# EAGLE library part RASPBERRY_PI_PICO (library WarthogRobotics-Modules)
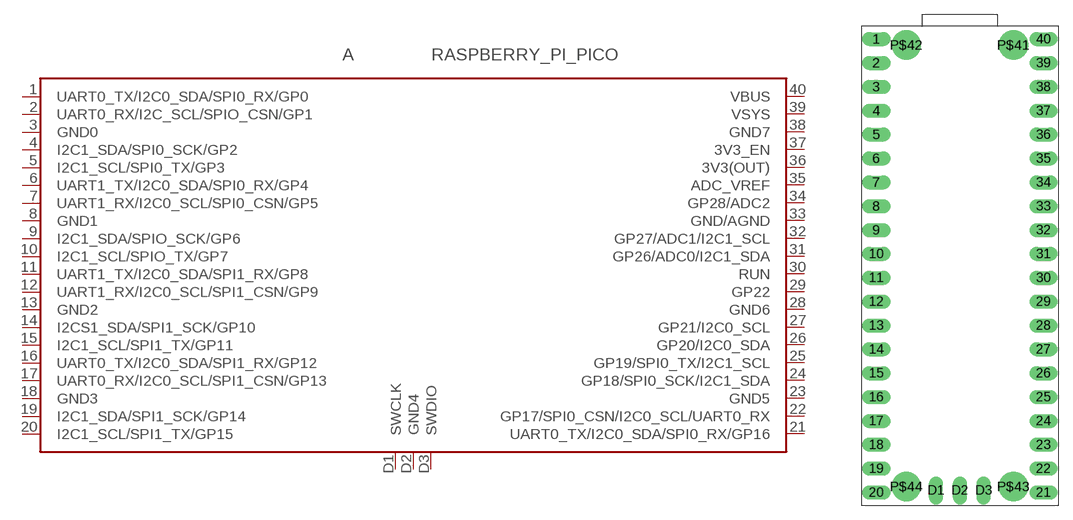
[diagram p0: symbol with the pads of RASPBERRY_PI_PICO; footprint RASPBERRY_PI_PICO]

Designator prefix A

## RASPBERRY_PI_PICO  [RASPBERRY_PI_PICO]
1  UART0_TX/I2C0_SDA/SPI0_RX/GP0
2  UART0_RX/I2C_SCL/SPIO_CSN/GP1
3  GND0
4  I2C1_SDA/SPI0_SCK/GP2
5  I2C1_SCL/SPI0_TX/GP3
6  UART1_TX/I2C0_SDA/SPI0_RX/GP4
7  UART1_RX/I2C0_SCL/SPI0_CSN/GP5
8  GND1
9  I2C1_SDA/SPIO_SCK/GP6
10  I2C1_SCL/SPIO_TX/GP7
11  UART1_TX/I2C0_SDA/SPI1_RX/GP8
12  UART1_RX/I2C0_SCL/SPI1_CSN/GP9
13  GND2
14  I2CS1_SDA/SPI1_SCK/GP10
15  I2C1_SCL/SPI1_TX/GP11
16  UART0_TX/I2C0_SDA/SPI1_RX/GP12
17  UART0_RX/I2C0_SCL/SPI1_CSN/GP13
18  GND3
19  I2C1_SDA/SPI1_SCK/GP14
20  I2C1_SCL/SPI1_TX/GP15
21  UART0_TX/I2C0_SDA/SPI0_RX/GP16
22  GP17/SPI0_CSN/I2C0_SCL/UART0_RX
23  GND5
24  GP18/SPI0_SCK/I2C1_SDA
25  GP19/SPI0_TX/I2C1_SCL
26  GP20/I2C0_SDA
27  GP21/I2C0_SCL
28  GND6
29  GP22
30  RUN
31  GP26/ADC0/I2C1_SDA
32  GP27/ADC1/I2C1_SCL
33  GND/AGND
34  GP28/ADC2
35  ADC_VREF
36  3V3(OUT)
37  3V3_EN
38  GND7
39  VSYS
40  VBUS
D1  SWCLK
D2  GND4
D3  SWDIO

## Footprint RASPBERRY_PI_PICO (pad centres in mm)
drill 1 long: 1 -8.89,25.4; 2 -8.89,22.86; 3 -8.89,20.32; 4 -8.89,17.78; 5 -8.89,15.24; 6 -8.89,12.7; 7 -8.89,10.16; 8 -8.89,7.62; 9 -8.89,5.08; 10 -8.89,2.54; 11 -8.89,0; 12 -8.89,-2.54; 13 -8.89,-5.08; 14 -8.89,-7.62; 15 -8.89,-10.16; 16 -8.89,-12.7; 17 -8.89,-15.24; 18 -8.89,-17.78; 19 -8.89,-20.32; 20 -8.89,-22.86; 21 8.89,-22.86; 22 8.89,-20.32; 23 8.89,-17.78; 24 8.89,-15.24; 25 8.89,-12.7; 26 8.89,-10.16; 27 8.89,-7.62; 28 8.89,-5.08; 29 8.89,-2.54; 30 8.89,0; 31 8.89,2.54; 32 8.89,5.08; 33 8.89,7.62; 34 8.89,10.16; 35 8.89,12.7; 36 8.89,15.24; 37 8.89,17.78; 38 8.89,20.32; 39 8.89,22.86; 40 8.89,25.4; D1 -2.54,-22.63; D2 0,-22.63; D3 2.54,-22.63
drill 2.1: P$41 5.7,24.77; P$42 -5.7,24.77; P$43 5.7,-22.23; P$44 -5.7,-22.23